# Altium schematic symbol library HyTechSymbols.SCHLIB: 46 symbols
Pins are listed as number, name and electrical type; pins without a type are passive.

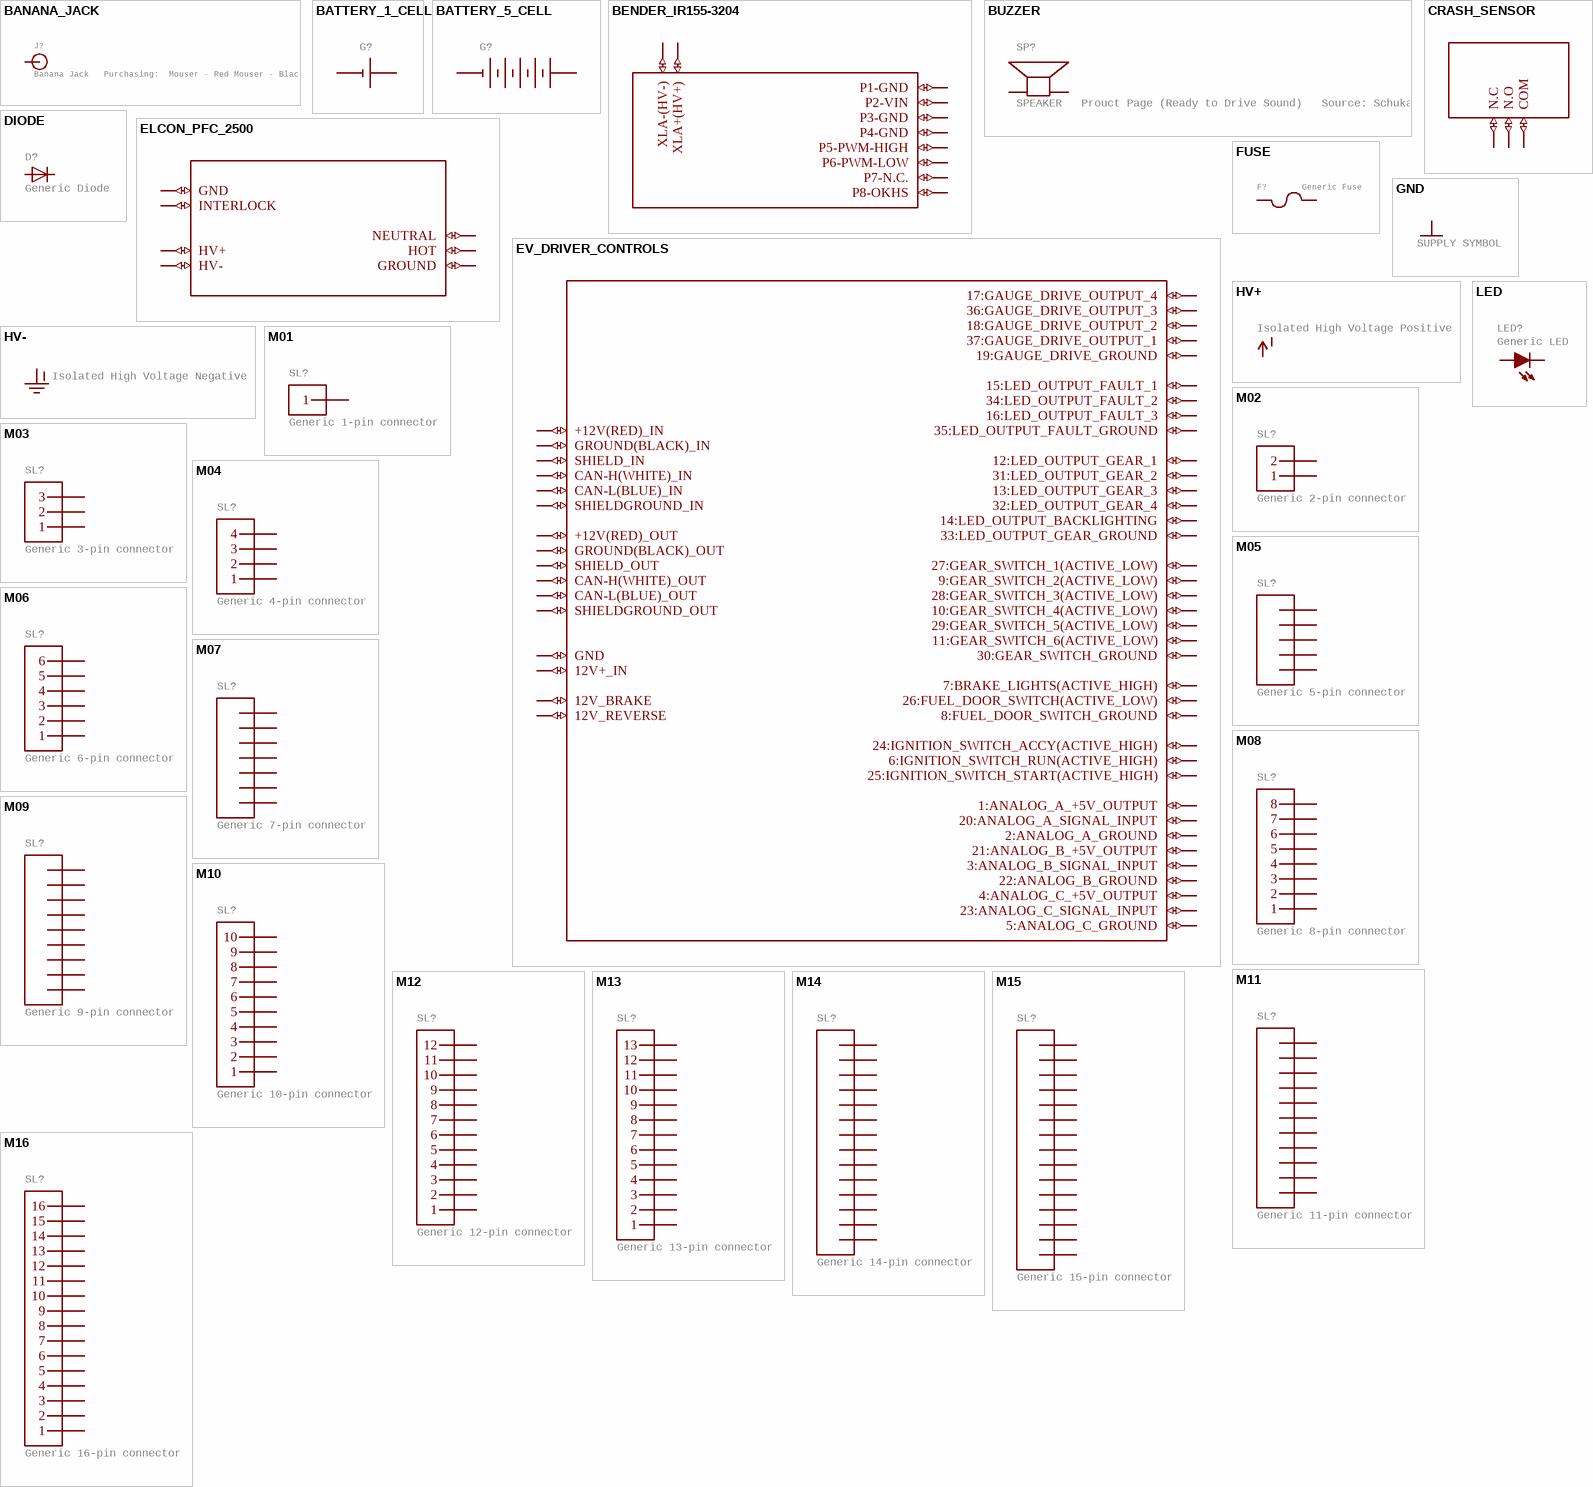
[diagram p0: symbols BANANA_JACK to M16]

## BANANA_JACK
designator J?, comment Banana Jack   Purchasing:  Mouser - Red Mouser - Black
GateName_1: G$1; SymbolName_1: BANANA_JACK; LibraryName: HyTechSymbols; DeviceSetName: BANANA_JACK
pins: ?1 1

## BATTERY_1_CELL
designator G?, comment Generic 1-cell battery   Source: Sonnenschein  (value not drawn)
GateName_1: G$1; SymbolName_1: BATTERY_1_CELL; LibraryName: HyTechSymbols; DeviceSetName: BATTERY_1_CELL
pins: ?1 +, ?2 -

## BATTERY_5_CELL
designator G?, comment Generic 5-cell battery   Source: Sonnenschein  (value not drawn)
GateName_1: G$1; SymbolName_1: BATTERY_5_CELL; LibraryName: HyTechSymbols; DeviceSetName: BATTERY_5_CELL
pins: ?1 +, ?2 -

## BENDER_IR155-3204
designator ?, comment Bender IR155-3204 Insulation Monitoring Device   Datasheet  (value not drawn)
GateName_1: G$1; SymbolName_1: BENDER_IR155-3204; LibraryName: HyTechSymbols; DeviceSetName: BENDER_IR155-3204
pins: ?1 P1-GND (io), ?2 P2-VIN (io), ?3 P3-GND (io), ?4 P4-GND (io), ?5 P5-PWM-HIGH (io), ?6 P6-PWM-LOW (io), ?7 P7-N.C. (io), ?8 P8-OKHS (io), ?9 XLA-(HV-) (io), ?10 XLA+(HV+) (io)

## BUZZER
designator SP?, comment SPEAKER   Prouct Page (Ready to Drive Sound)   Source: Schukat
GateName_1: 1; SymbolName_1: BUZZER; LibraryName: HyTechSymbols; DeviceSetName: BUZZER
pins: ?1 1, ?2 2

## CRASH_SENSOR
designator ?, comment Sensata Crash Sensor  http://www.sensata.com/download/resettable-crash.pdf  (value not drawn)
GateName_1: G$1; SymbolName_1: CRASH_SENSOR; LibraryName: HyTechSymbols; DeviceSetName: CRASH_SENSOR
pins: ?1 N.C (io), ?2 N.O (io), ?3 COM (io)

## DIODE
designator D?, comment Generic Diode
GateName_1: 1; SymbolName_1: DIODE; LibraryName: HyTechSymbols; DeviceSetName: DIODE
pins: ?1 A, ?2 C

## ELCON_PFC_2500
designator ?
GateName_1: G$1; SymbolName_1: ELCON_PFC_2500; LibraryName: HyTechSymbols; DeviceSetName: ELCON_PFC_2500
pins: ?1 HV+ (io), ?2 HV- (io), ?3 GND (io), ?4 NEUTRAL (io), ?5 HOT (io), ?6 GROUND (io), ?7 INTERLOCK (io)

## EV_DRIVER_CONTROLS
designator ?, comment EV Driver Controls from Tritium. This is a vehicle controller that can handle driver and sensor input.  (value not drawn)
GateName_1: G$1; SymbolName_1: EV_DRIVER_CONTROLS; LibraryName: HyTechSymbols; DeviceSetName: EV_DRIVER_CONTROLS
pins: ?1 12V+_IN (io), ?2 GND (io), ?3 SHIELDGROUND_OUT (io), ?4 CAN-L(BLUE)_OUT (io), ?5 CAN-H(WHITE)_OUT (io), ?6 SHIELD_OUT (io), ?7 GROUND(BLACK)_OUT (io), ?8 +12V(RED)_OUT (io), ?9 12V_BRAKE (io), ?10 12V_REVERSE (io), ?11 SHIELDGROUND_IN (io), ?12 CAN-L(BLUE)_IN (io), ?13 CAN-H(WHITE)_IN (io), ?14 SHIELD_IN (io), ?15 GROUND(BLACK)_IN (io), ?16 +12V(RED)_IN (io), ?17 1:ANALOG_A_+5V_OUTPUT (io), ?18 2:ANALOG_A_GROUND (io), ?19 3:ANALOG_B_SIGNAL_INPUT (io), ?20 4:ANALOG_C_+5V_OUTPUT (io), ?21 5:ANALOG_C_GROUND (io), ?22 6:IGNITION_SWITCH_RUN(ACTIVE_HIGH) (io), ?23 7:BRAKE_LIGHTS(ACTIVE_HIGH) (io), ?24 8:FUEL_DOOR_SWITCH_GROUND (io), ?25 9:GEAR_SWITCH_2(ACTIVE_LOW) (io), ?26 10:GEAR_SWITCH_4(ACTIVE_LOW) (io), ?27 11:GEAR_SWITCH_6(ACTIVE_LOW) (io), ?28 12:LED_OUTPUT_GEAR_1 (io), ?29 13:LED_OUTPUT_GEAR_3 (io), ?30 14:LED_OUTPUT_BACKLIGHTING (io), ?31 15:LED_OUTPUT_FAULT_1 (io), ?32 16:LED_OUTPUT_FAULT_3 (io), ?33 17:GAUGE_DRIVE_OUTPUT_4 (io), ?34 18:GAUGE_DRIVE_OUTPUT_2 (io), ?35 19:GAUGE_DRIVE_GROUND (io), ?36 20:ANALOG_A_SIGNAL_INPUT (io), ?37 21:ANALOG_B_+5V_OUTPUT (io), ?38 22:ANALOG_B_GROUND (io), ?39 23:ANALOG_C_SIGNAL_INPUT (io), ?40 24:IGNITION_SWITCH_ACCY(ACTIVE_HIGH) (io), ?41 25:IGNITION_SWITCH_START(ACTIVE_HIGH) (io), ?42 26:FUEL_DOOR_SWITCH(ACTIVE_LOW) (io), ?43 27:GEAR_SWITCH_1(ACTIVE_LOW) (io), ?44 28:GEAR_SWITCH_3(ACTIVE_LOW) (io), ?45 29:GEAR_SWITCH_5(ACTIVE_LOW) (io), ?46 30:GEAR_SWITCH_GROUND (io), ?47 31:LED_OUTPUT_GEAR_2 (io), ?48 32:LED_OUTPUT_GEAR_4 (io), ?49 33:LED_OUTPUT_GEAR_GROUND (io), ?50 34:LED_OUTPUT_FAULT_2 (io), ?51 35:LED_OUTPUT_FAULT_GROUND (io), ?52 36:GAUGE_DRIVE_OUTPUT_3 (io), ?53 37:GAUGE_DRIVE_OUTPUT_1 (io)

## FUSE
designator F?, comment Generic Fuse
GateName_1: G$1; SymbolName_1: FUSE; LibraryName: HyTechSymbols; DeviceSetName: FUSE
pins: ?1 1 (io), ?2 2 (io)

## GND
designator GND?, comment SUPPLY SYMBOL
GateName_1: 1; SymbolName_1: GND; LibraryName: HyTechSymbols; DeviceSetName: GND
pins: ?1 GND (power)

## HV+
designator ?, comment Isolated High Voltage Positive
GateName_1: G$1; SymbolName_1: HV+; LibraryName: HyTechSymbols; DeviceSetName: HV+
pins: ?1 VCC-ISO (power)

## HV-
designator GND-ISO?, comment Isolated High Voltage Negative
GateName_1: G$1; SymbolName_1: HV-; LibraryName: HyTechSymbols; DeviceSetName: HV-
pins: ?1 GND-ISO (power)

## LED
designator LED?, comment Generic LED
GateName_1: G$1; SymbolName_1: LED; LibraryName: HyTechSymbols; DeviceSetName: LED
pins: ?1 C, ?2 A

## M01
designator SL?, comment Generic 1-pin connector
GateName_1: G$1; SymbolName_1: M01; LibraryName: HyTechSymbols; DeviceSetName: M01
pins: ?1 1

## M02
designator SL?, comment Generic 2-pin connector
GateName_1: G$1; SymbolName_1: M02; LibraryName: HyTechSymbols; DeviceSetName: M02
pins: ?1 1, ?2 2

## M03
designator SL?, comment Generic 3-pin connector
GateName_1: G$1; SymbolName_1: M03; LibraryName: HyTechSymbols; DeviceSetName: M03
pins: ?1 1, ?2 2, ?3 3

## M04
designator SL?, comment Generic 4-pin connector
GateName_1: G$1; SymbolName_1: M04; LibraryName: HyTechSymbols; DeviceSetName: M04
pins: ?1 1, ?2 2, ?3 3, ?4 4

## M05
designator SL?, comment Generic 5-pin connector
GateName_1: G$1; SymbolName_1: M05; LibraryName: HyTechSymbols; DeviceSetName: M05
pins: ?1 1, ?2 2, ?3 3, ?4 4, ?5 5

## M06
designator SL?, comment Generic 6-pin connector
GateName_1: G$1; SymbolName_1: M06; LibraryName: HyTechSymbols; DeviceSetName: M06
pins: ?1 1, ?2 2, ?3 3, ?4 4, ?5 5, ?6 6

## M07
designator SL?, comment Generic 7-pin connector
GateName_1: G$1; SymbolName_1: M07; LibraryName: HyTechSymbols; DeviceSetName: M07
pins: ?1 1, ?2 2, ?3 3, ?4 4, ?5 5, ?6 6, ?7 7

## M08
designator SL?, comment Generic 8-pin connector
GateName_1: G$1; SymbolName_1: M08; LibraryName: HyTechSymbols; DeviceSetName: M08
pins: ?1 1, ?2 2, ?3 3, ?4 4, ?5 5, ?6 6, ?7 7, ?8 8

## M09
designator SL?, comment Generic 9-pin connector
GateName_1: G$1; SymbolName_1: M09; LibraryName: HyTechSymbols; DeviceSetName: M09
pins: ?1 1, ?2 2, ?3 3, ?4 4, ?5 5, ?6 6, ?7 7, ?8 8, ?9 9

## M10
designator SL?, comment Generic 10-pin connector
GateName_1: G$1; SymbolName_1: M10; LibraryName: HyTechSymbols; DeviceSetName: M10
pins: ?1 1, ?2 2, ?3 3, ?4 4, ?5 5, ?6 6, ?7 7, ?8 8, ?9 9, ?10 10

## M11
designator SL?, comment Generic 11-pin connector
GateName_1: G$1; SymbolName_1: M11; LibraryName: HyTechSymbols; DeviceSetName: M11
pins: ?1 1, ?2 2, ?3 3, ?4 4, ?5 5, ?6 6, ?7 7, ?8 8, ?9 9, ?10 10, ?11 11

## M12
designator SL?, comment Generic 12-pin connector
GateName_1: G$1; SymbolName_1: M12; LibraryName: HyTechSymbols; DeviceSetName: M12
pins: ?1 1, ?2 2, ?3 3, ?4 4, ?5 5, ?6 6, ?7 7, ?8 8, ?9 9, ?10 10, ?11 11, ?12 12

## M13
designator SL?, comment Generic 13-pin connector
GateName_1: G$1; SymbolName_1: M13; LibraryName: HyTechSymbols; DeviceSetName: M13
pins: ?1 1, ?2 2, ?3 3, ?4 4, ?5 5, ?6 6, ?7 7, ?8 8, ?9 9, ?10 10, ?11 11, ?12 12, ?13 13

## M14
designator SL?, comment Generic 14-pin connector
GateName_1: G$1; SymbolName_1: M14; LibraryName: HyTechSymbols; DeviceSetName: M14
pins: ?1 1, ?2 2, ?3 3, ?4 4, ?5 5, ?6 6, ?7 7, ?8 8, ?9 9, ?10 10, ?11 11, ?12 12, ?13 13, ?14 14

## M15
designator SL?, comment Generic 15-pin connector
GateName_1: G$1; SymbolName_1: M15; LibraryName: HyTechSymbols; DeviceSetName: M15
pins: ?1 1, ?2 2, ?3 3, ?4 4, ?5 5, ?6 6, ?7 7, ?8 8, ?9 9, ?10 10, ?11 11, ?12 12, ?13 13, ?14 14, ?15 15

## M16
designator SL?, comment Generic 16-pin connector
GateName_1: G$1; SymbolName_1: M16; LibraryName: HyTechSymbols; DeviceSetName: M16
pins: ?1 1, ?2 2, ?3 3, ?4 4, ?5 5, ?6 6, ?7 7, ?8 8, ?9 9, ?10 10, ?11 11, ?12 12, ?13 13, ?14 14, ?15 15, ?16 16

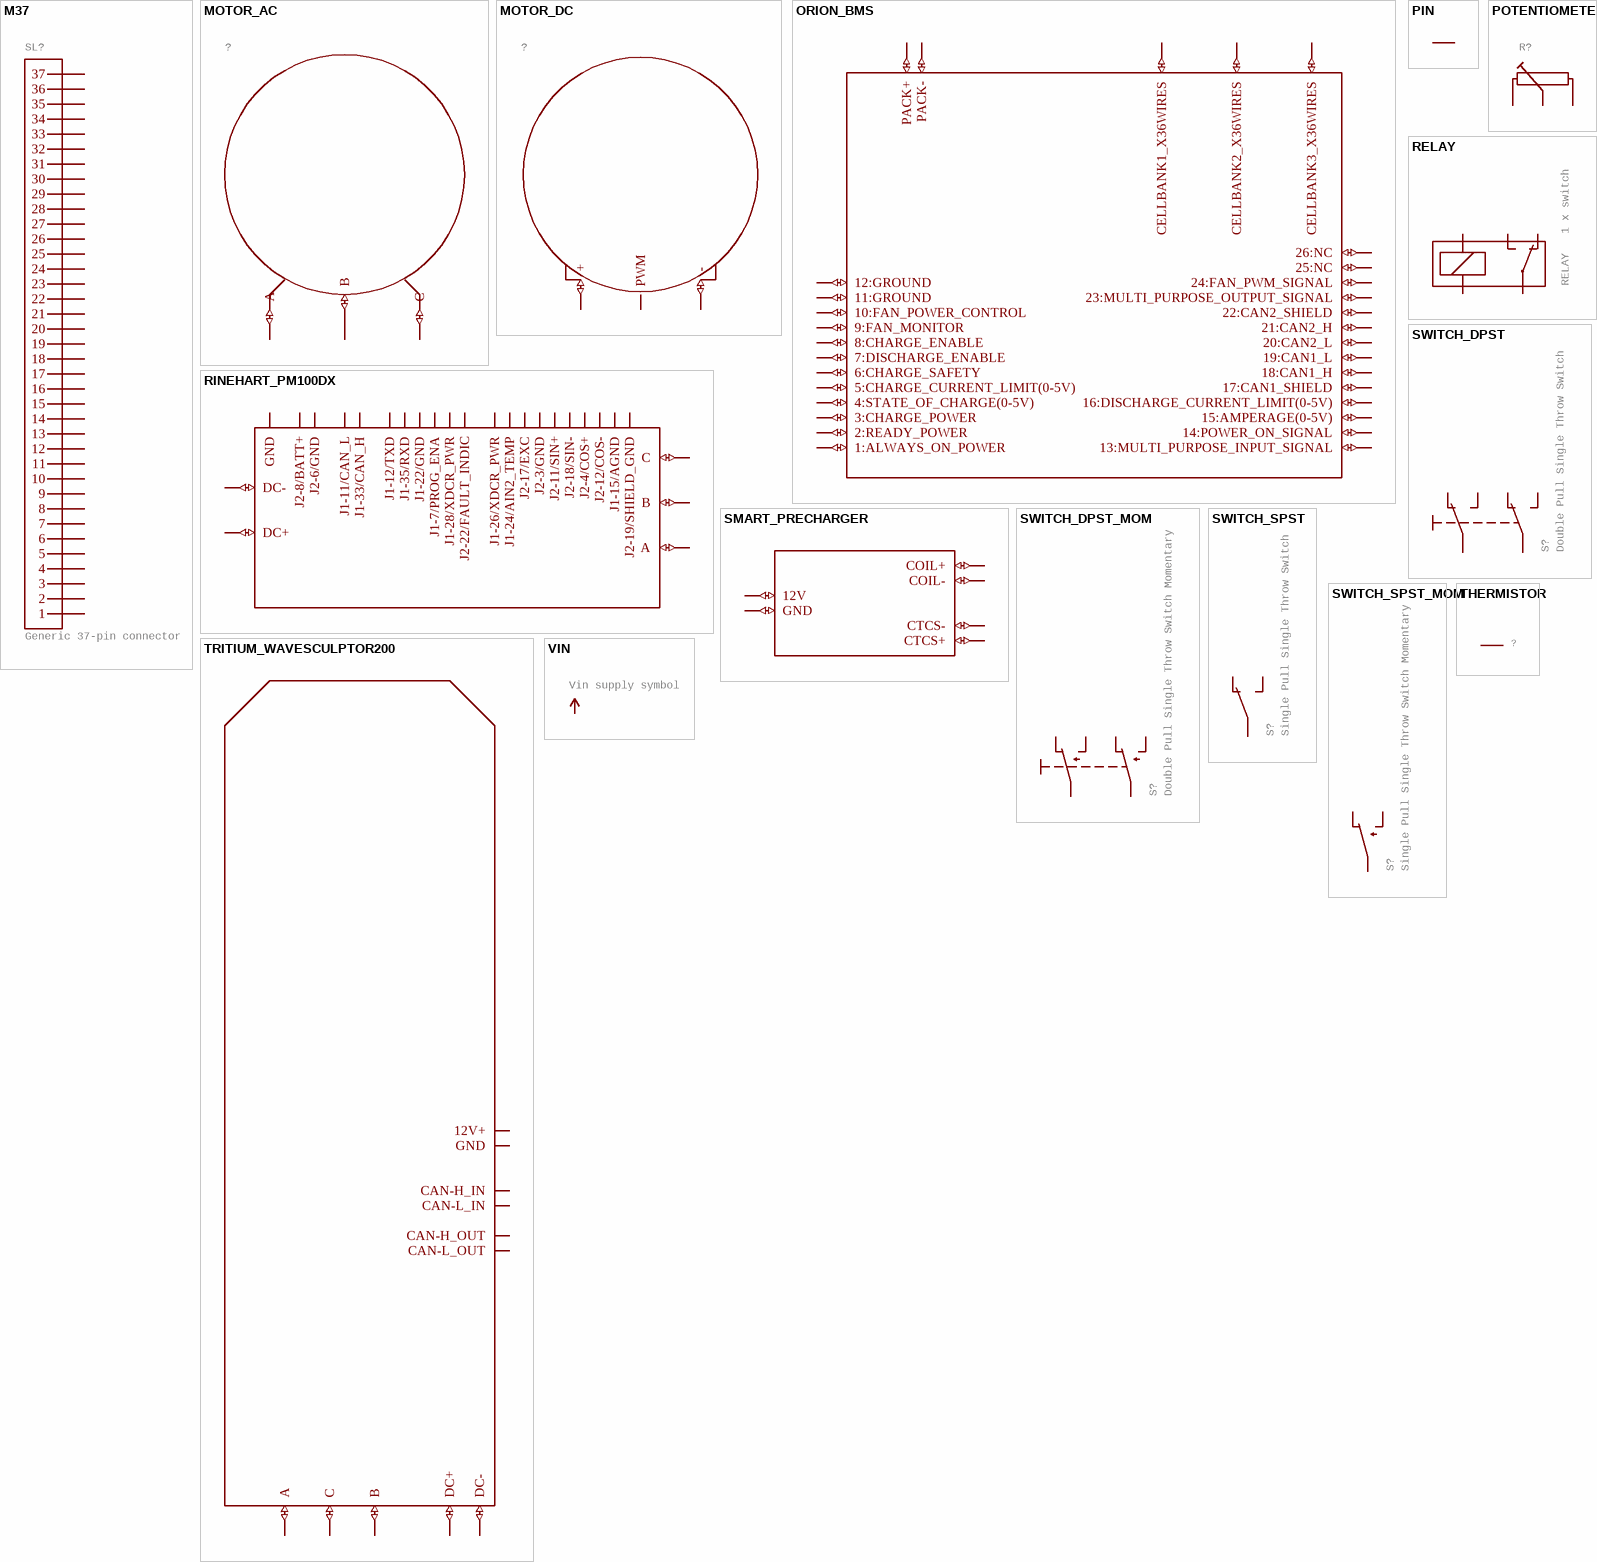
[diagram p1: symbols M37 to VIN]

## M37
designator SL?, comment Generic 37-pin connector
GateName_1: G$1; SymbolName_1: M37; LibraryName: HyTechSymbols; DeviceSetName: M37
pins: ?1 1, ?2 2, ?3 3, ?4 4, ?5 5, ?6 6, ?7 7, ?8 8, ?9 9, ?10 10, ?11 11, ?12 12, ?13 13, ?14 14, ?15 15, ?16 16, ?17 17, ?18 18, ?19 19, ?20 20, ?21 21, ?22 22, ?23 23, ?24 24, ?25 25, ?26 26, ?27 27, ?28 28, ?29 29, ?30 30, ?31 31, ?32 32, ?33 33, ?34 34, ?35 35, ?36 36, ?37 37

## MOTOR_AC
designator ?, comment Generic three-phase AC electric motor  (value not drawn)
GateName_1: G$1; SymbolName_1: MOTOR_AC; LibraryName: HyTechSymbols; DeviceSetName: MOTOR_AC
pins: ?1 B (io), ?2 A (io), ?3 C (io)

## MOTOR_DC
designator ?, comment Generic DC electric motor  (value not drawn)
GateName_1: G$1; SymbolName_1: MOTOR_DC; LibraryName: HyTechSymbols; DeviceSetName: MOTOR_DC
pins: ?1 + (io), ?2 - (io), ?3 PWM (io)

## ORION_BMS
designator ?, comment Orion Battery Management System  Product Page  (value not drawn)
GateName_1: G$1; SymbolName_1: ORION_BMS; LibraryName: HyTechSymbols; DeviceSetName: ORION_BMS
pins: ?1 1:ALWAYS_ON_POWER (io), ?2 2:READY_POWER (io), ?3 3:CHARGE_POWER (io), ?4 4:STATE_OF_CHARGE(0-5V) (io), ?5 5:CHARGE_CURRENT_LIMIT(0-5V) (io), ?6 6:CHARGE_SAFETY (io), ?7 7:DISCHARGE_ENABLE (io), ?8 8:CHARGE_ENABLE (io), ?9 9:FAN_MONITOR (io), ?10 10:FAN_POWER_CONTROL (io), ?11 11:GROUND (io), ?12 12:GROUND (io), ?13 13:MULTI_PURPOSE_INPUT_SIGNAL (io), ?14 14:POWER_ON_SIGNAL (io), ?15 15:AMPERAGE(0-5V) (io), ?16 16:DISCHARGE_CURRENT_LIMIT(0-5V) (io), ?17 17:CAN1_SHIELD (io), ?18 18:CAN1_H (io), ?19 19:CAN1_L (io), ?20 20:CAN2_L (io), ?21 21:CAN2_H (io), ?22 22:CAN2_SHIELD (io), ?23 23:MULTI_PURPOSE_OUTPUT_SIGNAL (io), ?24 24:FAN_PWM_SIGNAL (io), ?25 25:NC (io), ?26 26:NC (io), ?27 PACK+ (io), ?28 PACK- (io), ?29 CELLBANK1_X36WIRES (io), ?30 CELLBANK2_X36WIRES (io), ?31 CELLBANK3_X36WIRES (io)

## PIN
designator ?
GateName_1: G$1; SymbolName_1: PIN; LibraryName: HyTechSymbols; DeviceSetName: PIN
pins: ?1 S

## POTENTIOMETER
designator R?, comment Generic potentiometer  (value not drawn)
GateName_1: G$1; SymbolName_1: POTENTIOMETER; LibraryName: HyTechSymbols; DeviceSetName: POTENTIOMETER
pins: ?1 1A, ?2 1E, ?3 1S

## RELAY
designator K?, comment RELAY   1 x switch
GateName_1: 1; SymbolName_1: RELAY; LibraryName: HyTechSymbols; DeviceSetName: RELAY
pins: ?1 2, ?2 1, ?3 O, ?4 S, ?5 P

## RINEHART_PM100DX
designator ?, comment Rinehart Motion Systems PM100DX Motor Inverter  Product Page Datasheet  (value not drawn)
GateName_1: G$1; SymbolName_1: RINEHART_PM100DX; LibraryName: HyTechSymbols; DeviceSetName: RINEHART_PM100DX
pins: ?1 A (io), ?2 B (io), ?3 C (io), ?4 DC+ (io), ?5 DC- (io), ?6 J1-11/CAN_L (io), ?7 J1-33/CAN_H (io), ?8 J2-8/BATT+ (io), ?9 J2-6/GND (io), ?10 J1-12/TXD (io), ?11 J1-35/RXD (io), ?12 J1-7/PROG_ENA (io), ?13 J2-22/FAULT_INDIC (io), ?14 J1-22/GND (io), ?15 J2-17/EXC (io), ?16 J2-3/GND (io), ?17 J2-11/SIN+ (io), ?18 J2-18/SIN- (io), ?19 J2-4/COS+ (io), ?20 J2-12/COS- (io), ?21 J1-15/AGND (io), ?22 J1-24/AIN2_TEMP (io), ?23 J1-28/XDCR_PWR (io), ?24 J1-26/XDCR_PWR (io), ?25 GND (io), ?26 J2-19/SHIELD_GND (io)

## SMART_PRECHARGER
designator ?, comment Smart Precharger  http://www.zeva.com.au/Products/datasheets/SmartPrechargerV1-3.pdf  (value not drawn)
GateName_1: G$1; SymbolName_1: SMART_PRECHARGER; LibraryName: HyTechSymbols; DeviceSetName: SMART_PRECHARGER
pins: ?1 COIL+ (io), ?2 COIL- (io), ?3 CTCS- (io), ?4 CTCS+ (io), ?5 12V (io), ?6 GND (io)

## SWITCH_DPST
designator S?, comment Double Pull Single Throw Switch
GateName_1: DPST; SymbolName_1: SWITCH_DPST; LibraryName: HyTechSymbols; DeviceSetName: SWITCH_DPST
pins: ?1 P, ?2 P1, ?3 S, ?4 O, ?5 O1, ?6 S1

## SWITCH_DPST_MOM
designator S?, comment Double Pull Single Throw Switch Momentary
GateName_1: DPST_MOM; SymbolName_1: SWITCH_DPST_MOM; LibraryName: HyTechSymbols; DeviceSetName: SWITCH_DPST_MOM
pins: ?1 P, ?2 S, ?3 O, ?4 P1, ?5 S1, ?6 O1

## SWITCH_SPST
designator S?, comment Single Pull Single Throw Switch
GateName_1: SPST; SymbolName_1: SWITCH_SPST; LibraryName: HyTechSymbols; DeviceSetName: SWITCH_SPST
pins: ?1 P, ?2 S, ?3 O

## SWITCH_SPST_MOM
designator S?, comment Single Pull Single Throw Switch Momentary
GateName_1: SPST_MOM; SymbolName_1: SWITCH_SPST_MOM; LibraryName: HyTechSymbols; DeviceSetName: SWITCH_SPST_MOM
pins: ?1 P, ?2 S, ?3 O

## THERMISTOR
designator ?
GateName_1: G$1; SymbolName_1: MV; DeviceSetName: THERMISTOR; LibraryName: HyTechSymbols
pins: ?1 S

## TRITIUM_WAVESCULPTOR200
designator ?, comment Tritium Wavesculptor200 Motor Inverter  Product Page Datasheet  (value not drawn)
GateName_1: G$1; SymbolName_1: TRITIUM_WAVESCULPTOR200; LibraryName: HyTechSymbols; DeviceSetName: TRITIUM_WAVESCULPTOR200
pins: ?1 A (io), ?2 C (io), ?3 B (io), ?4 DC+ (io), ?5 DC- (io), ?6 CAN-L_IN (io), ?7 CAN-H_IN (io), ?8 12V+ (io), ?9 GND (io), ?10 CAN-H_OUT (io), ?11 CAN-L_OUT (io)

## VIN
designator SUPPLY?, comment Vin supply symbol
GateName_1: G$1; SymbolName_1: VIN; LibraryName: HyTechSymbols; DeviceSetName: VIN
pins: ?1 VIN (power)